# Altium footprint library 底板20160428.PcbLib: 25 footprints (part 2 of 2)
Each footprint in its own frame and in the unit in brackets; x right, y up, seen from the top. Pads: shape width x height; smd on the part's side, far side on the other; paste and mask are expansions set on the pad; w line width, h text height; cw(c..) or ccw(c..) is an arc to the next point about the centre after c.
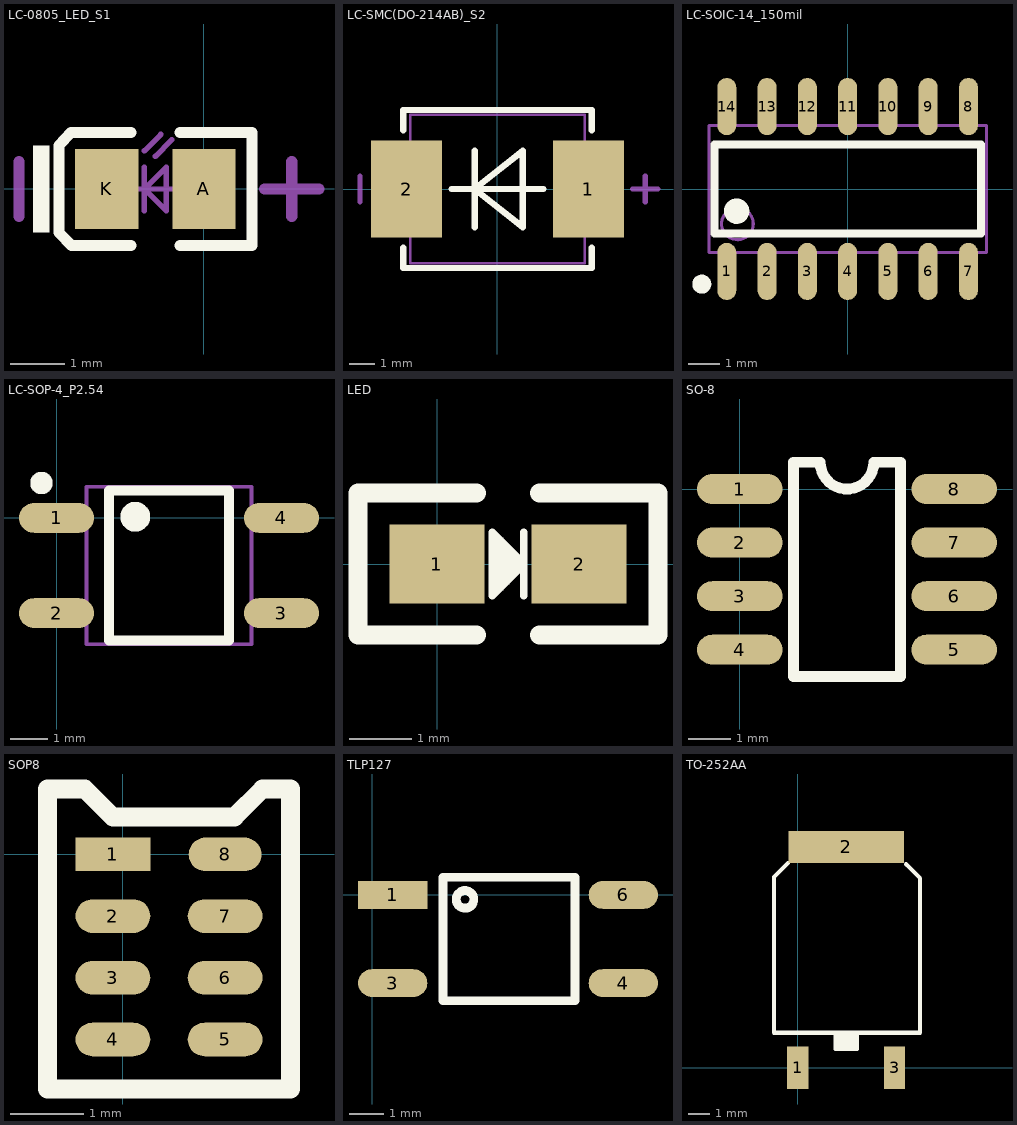
[diagram p1: the footprints below, top view; thin cyan lines are the x and y axes]

## LC-0805_LED_S1 [mm]
pads (2):
  rect 1.16x1.47 smd: A(0.001,0) K(-1.779,0)
Top Overlay:
  rectangle: -3.134,-0.8 -2.834,0.8
  lines w0.2: -1.339,-1.035 -2.424,-1.035 -2.659,-0.8 -2.659,0.8 -2.439,1.035 -1.339,1.035 ; -0.439,-1.035 0.881,-1.035 0.881,1.035 -0.439,1.035
Mechanical 13:
  lines w0.1: -1.289,0 -0.489,0 ; -1.089,-0.4 -1.089,0.4 ; -1.089,0.7 -0.789,1 ; -0.889,0.6 -0.589,0.9 ; -1.089,0 -0.689,-0.4 -0.689,0.4 -1.089,0
Mechanical 15:
  lines w0.203: -3.389,-0.5 -3.389,0.5 ; 1.111,0 2.111,0 ; 1.611,-0.5 1.611,0.5
3D body: height 1.1, standoff 0, extent -1.899,-0.625 0.121,0.625

## LC-SMC(DO-214AB)_S2 [mil]
pads (2):
  rect 110x150 smd: 1(140.49,0) 2(-140.49,0)
Top Overlay:
  lines w10: -145.67,-90.55 -145.67,-122.05 145.67,-122.05 145.67,-90.55 ; -145.67,90.55 -145.67,122.05 145.67,122.05 145.67,90.55 ; -70.87,0 70.87,0 ; -35.43,-59.06 -35.43,59.06 ; -35.43,0 39.37,59.06 39.37,-59.06 -35.43,0
Mechanical 13:
  lines w3.94: -135.04,-114.96 -135.04,114.96 135.04,114.96 135.04,-114.96 -135.04,-114.96
Mechanical 15:
  lines w8: -212.6,-19.68 -212.6,19.68 ; 208.66,0 248.03,0 ; 228.35,-19.68 228.35,19.68

## LC-SOIC-14_150mil [mm]
pads (14):
  oval 0.6x1.8 smd: 1(-3.81,-2.6) 2(-2.54,-2.6) 3(-1.27,-2.6) 4(0,-2.6) 5(1.27,-2.6) 6(2.54,-2.6) 7(3.81,-2.6) 8(3.81,2.6) 9(2.54,2.6) 10(1.27,2.6) 11(0,2.6) 12(-1.27,2.6) 13(-2.54,2.6) 14(-3.81,2.6)
Top Overlay:
  circle w0.3: c-4.6,-3 r0.15
  circle w0.4: c-3.5,-0.7 r0.2
  lines w0.254: -4.2,-1.4 4.2,-1.4 4.2,1.4 -4.2,1.4 -4.2,-1.4
Mechanical 13:
  circle w0.1: c-3.475,-1.1 r0.5
  lines w0.1: -4.375,-2 4.375,-2 4.375,2 -4.375,2 -4.375,-2

## LC-SOP-4_P2.54 [mm]
pads (4):
  oval 2x0.8 smd: 1(0,0) 2(0,-2.54) 3(6,-2.54) 4(6,0)
Top Overlay:
  circle w0.3: c-0.4,0.93 r0.15
  circle w0.4: c2.1,0.03 r0.2
  lines w0.254: 1.4,-3.27 1.4,0.73 4.6,0.73 4.6,-3.27 1.4,-3.27
Mechanical 13:
  lines w0.1: 0.8,-3.37 0.8,0.83 5.2,0.83 5.2,-3.37 0.8,-3.37

## LED [mil]
height 68.9
pads (2):
  rect 60x50 smd: 1(-0.31,0.27) 2(89.69,0.27)
Top Overlay:
  lines w5: 34.69,6.27 39.9,11.48 39.9,15.05 ; 39.9,-6.23 34.69,-6.23 34.69,-2.73 35.19,-3.23 39.9,-3.23 39.9,-0.45 34.69,4.77 34.69,9.84 39.9,15.05 ; 45.69,0.27 49.19,3.77 54.69,3.77 ; 54.69,-19.73 54.69,20.27 ; 54.69,-2.73 47.69,-2.73 44.69,0.27 ; 34.69,-19.73 54.69,0.27 ; 34.69,-19.73 34.69,20.27 54.69,0.27 ; 34.69,-19.73 39.9,-14.52 ; 39.9,-14.52 39.9,15.05 ; 39.9,-14.52 38.48,-14.52 34.69,-10.73 43.69,-10.73 44.69,-9.73 44.69,10.27 44.69,0.27 ; 44.69,0.27 34.69,0.27 54.69,0.27
  lines w12: 24.69,-44.73 -50.31,-44.73 -50.31,45.27 24.69,45.27 ; 64.69,-44.73 139.69,-44.73 139.69,45.27 64.69,45.27

## SO-8 [mil]
pads (8):
  oval 80x28 smd: 1(0,0) 2(0,-50) 3(0,-100) 4(0,-150) 5(200,-150) 6(200,-100) 7(200,-50) 8(200,0)
Top Overlay:
  lines w10: 72,25 50,25 50,-175 150,-175 150,25 125,25 cw(c100,25) 75,25

## SOP8 [mil]
pads (8):
  rect 40x18 smd: 1(-5.35,-0.18)
  oval 40x18 smd: 2(-5.35,-33.18) 3(-5.35,-66.18) 4(-5.35,-99.18) 5(54.65,-99.18) 6(54.65,-66.18) 7(54.65,-33.18)
  oval 39x18 smd: 8(54.65,-0.18)
Top Overlay:
  lines w10: 89.65,14.82 89.65,34.82 74.65,34.82 59.65,19.82 -5.35,19.82 -20.35,34.82 -40.35,34.82 -40.35,26.32 -40.35,-125.68 89.65,-125.68 89.65,26.32

## TLP127 [mm]
height 1.75
pads (4):
  rect 2x0.8 smd: 1(0.589,-0.001)
  oval 2x0.8 smd: 3(0.589,-2.541) 4(7.239,-2.541) 6(7.239,-0.001)
Top Overlay:
  circle w0.254: c2.675,-0.128 r0.254
  lines w0.254: 2.04,-3.049 4.834,-3.049 5.85,-3.049 5.85,0.507 4.834,0.507 2.04,0.507 2.04,-3.049

## TO-252AA [mm]
pads (3):
  rect 1x2 smd: 1(0,0) 3(4.57,0)
  rect 5.46x1.5 smd: 2(2.286,10.414)
Top Overlay:
  rectangle: 1.778,0.889 2.794,1.651
  lines w0.2: -0.457,9.652 -1.118,8.992 -1.118,1.651 5.766,1.651 5.766,8.941 5.105,9.601 ; 1.778,1.651 1.778,0.889 2.794,0.889 2.794,1.651